# Altium schematic symbol library LPEDT_Parts.SchLib: 52 symbols (part 3 of 3)
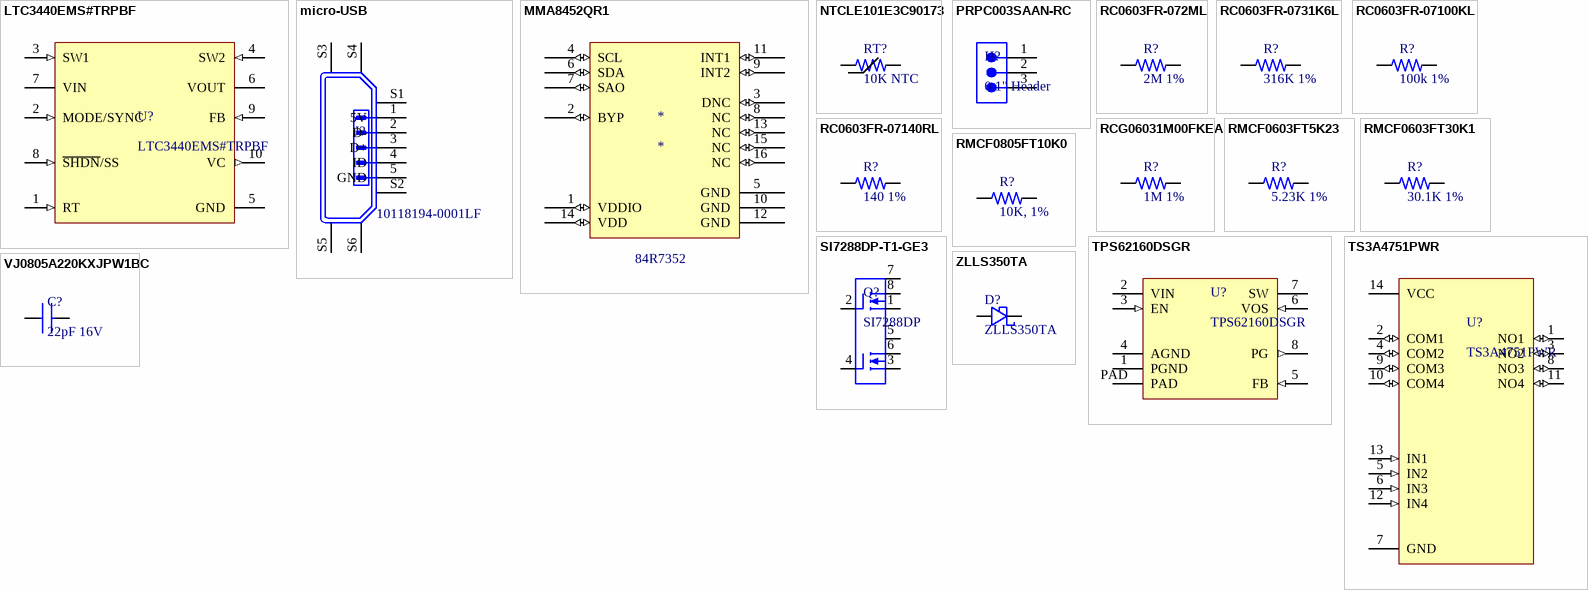
[diagram p3: symbols LTC3440EMS#TRPBF to ZLLS350TA]

## TS3A4751PWR
designator U?
IC, SPST ANALOG SWITCH 14-TSSOP; Manufacturer: Texas Instruments; Min Supply Voltage: 1.6V; Max Supply Voltage: 3.6V; Number of Channels: 4; Bandwidth: 125MHz; Operating Supply Voltage: 3V; On-State Resistance: 900mR; Turn-On Delay Time: 14ns; Turn-Off Delay Time: 9ns; Max Supply Current: 75nA; Supply Type: Single; Polarity: Non-Inverting; High Level Output Current: 100mA; Supplier 1: Digi-Key; Manufacturer Part Number: TS3A4751PWR; RoHS: Yes; Category: Decoders and Multiplexers; Stock 1: 66252; Pricing 1: 1=1.23000, 10=1.10100, 25=1.04480, 100=0.80220, 250=0.70892, 500=0.67162, 1000=0.52237 (USD); Mount: Surface Mount; Case/Package: TSSOP; Number of Pins: 14; Weight: 0.002018oz; Contact Plating: Gold; Min Operating Temperature: -40°C; Max Operating Temperature: 85°C; Package Quantity: 1; Packaging: Tape and Reel; Number of Inputs: 4; Number of Outputs: 4; Throw Configuration: SPST; Termination: SMD/SMT; Low Level Output Current: 100mA; Length: 5.1mm; Width: 4.5mm; Height: 1.05mm; Radiation Hardening: No; Lead Free: Lead Free; RoHS Compliant: Yes; REACH SVHC: No SVHC; ComponentLink1URL: https://datasheet.ciiva.com/2980/ts3a4751-2980067.pdf?src-supplier=Avnet; ComponentLink1Description: https://datasheet.ciiva.com/2980/ts3a4751-2980067.pdf?src-supplier=Avnet; ComponentLink2URL: https://datasheet.ciiva.com/15126/getdatasheetpartid-48049-15126911.pdf?src-supplier=Verical; ComponentLink2Description: https://datasheet.ciiva.com/15126/getdatasheetpartid-48049-15126911.pdf?src-supplier=Verical; ComponentLink3URL: https://datasheet.ciiva.com/41461/001187287-da-01-en-ic-switch-quad-ts3a4751pwr-tssop-14-tid-41461731.pdf?src-supplier=Conrad; ComponentLink3Description: https://datasheet.ciiva.com/41461/001187287-da-01-en-ic-switch-quad-ts3a4751pwr-tssop-14-tid-41461731.pdf?src-supplier=Conrad; ComponentLink4URL: https://datasheet.ciiva.com/1671/ts3a4751-1671475.pdf?src-supplier=Digi-Key; ComponentLink4Description: https://datasheet.ciiva.com/1671/ts3a4751-1671475.pdf?src-supplier=Digi-Key; ComponentLink5URL: https://datasheet.ciiva.com/1671/ts3a4751-1671476.pdf?src-supplier=Digi-Key; ComponentLink5Description: https://datasheet.ciiva.com/1671/ts3a4751-1671476.pdf?src-supplier=Digi-Key; ComponentLink6URL: https://datasheet.ciiva.com/6639/ts3a4751-6639431.pdf?src-supplier=Digi-Key; ComponentLink6Description: https://datasheet.ciiva.com/6639/ts3a4751-6639431.pdf?src-supplier=Digi-Key; ComponentLink7URL: https://datasheet.ciiva.com/1514/1764501-1514572.pdf?src-supplier=Element14; ComponentLink7Description: https://datasheet.ciiva.com/1514/1764501-1514572.pdf?src-supplier=Element14
footprint 14-TSSOP_5x4_4 (TSSOP, 14-Leads, Body 5.00x4.40mm, Pitch 0.65mm, IPC Medium Density)
pins: 1 NO1 (io) "Normally open signal path", 2 COM1 (io) "Common signal path", 3 NO2 (io) "Normally open signal path", 4 COM2 (io) "Common signal path", 5 IN2 (in) "Logic control input", 6 IN3 (in) "Logic control input", 7 GND (power) "Ground", 8 NO3 (io) "Normally open signal path", 9 COM3 (io) "Common signal path", 10 COM4 (io) "Common signal path", 11 NO4 (io) "Normally open signal path", 12 IN4 (in) "Logic control input", 13 IN1 (in) "Logic control input", 14 VCC (power) "Positive supply voltage"

## VJ0805A220KXJPW1BC
designator C?, comment 22pF 16V
CAP CER 22PF 16V C0G/NP0 0805; Manufacturer: Vishay Vitramon; Manufacturer Part Number: VJ0805A220KXJPW1BC; Dielectric Material: Tantalum; Tolerance: 10%; Dielectric: C0G; Supplier 1: Digi-Key; RoHS: Yes; Category: Ceramic Capacitors; Stock 1: 14990; Pricing 1: 1=0.20000, 10=0.14000, 50=0.07940, 100=0.06580, 500=0.04614, 1000=0.03819, 2500=0.03554, 5000=0.03252 (USD); Mount: Surface Mount; Case/Package: 0805; Case Code (Imperial): 0805; Case Code (Metric): 2012; Min Operating Temperature: -55°C; Max Operating Temperature: 125°C; Capacitance: 22pF; Voltage Rating (DC): 16V; Packaging: Tape and Reel; Package Quantity: 15000; Termination: SMD/SMT; Series: VJ W1BC; Construction: Flat; Length: 2mm; Width: 1.25mm; Height: 1.45mm; Depth: 1.25mm; Lead Free: Lead Free; RoHS Compliant: Yes; ComponentLink1URL: http://www.mouser.com/ds/2/427/vjw1bcbascomseries-223529.pdf?src-supplier=Mouser; ComponentLink1Description: http://www.mouser.com/ds/2/427/vjw1bcbascomseries-223529.pdf?src-supplier=Mouser; ComponentLink2URL: http://www.vishay.com/docs/28548/vjw1bcbascomseries.pdf?src-supplier=Avnet; ComponentLink2Description: http://www.vishay.com/docs/28548/vjw1bcbascomseries.pdf?src-supplier=Avnet; ComponentLink3URL: https://www.vishay.com/docs/28548/vjw1bcbascomseries.pdf?src-supplier=Digi-Key; ComponentLink3Description: https://www.vishay.com/docs/28548/vjw1bcbascomseries.pdf?src-supplier=Digi-Key
footprint CAP_0805_1_4MM (Chip Capacitor, 2-Leads, Body 2.00x1.25mm, IPC Medium Density)
pins: 1, 2

## ZLLS350TA
designator D?
Diode Schottky 40V 0.65A 2Pin SOD523; Manufacturer: Diodes Zetex; Forward Current: 650mA; Peak Non-Repetitive Surge Current: 6A; Element Configuration: Single; Forward Voltage: 1V; Max Power Dissipation: 357mW; Max Reverse Current: 4uA; Reverse Recovery Time: 1ns; Average Rectified Current: 380mA; Polarity: Standard; Capacitance: 3.5pF; Diode Type: RECTIFIER; Supplier 1: Digi-Key; Manufacturer Part Number: ZLLS350TA; RoHS: Yes; Category: Schottky Diodes; Stock 1: 114407; Pricing 1: 1=0.44000, 10=0.37700, 100=0.26180, 500=0.20442, 1000=0.16616 (USD); Mount: Surface Mount; Number of Pins: 2; Weight: 3.5E-05oz; Contact Plating: Tin,Matte; Min Operating Temperature: -55°C; Max Operating Temperature: 150°C; Max Repetitive Reverse Voltage (Vrrm): 40V; Packaging: Tape and Reel; Package Quantity: 3000; Max Forward Surge Current (Ifsm): 6A; Power Dissipation: 357mW; Termination: SMD/SMT; Voltage Rating (DC): 40V; Power Rating: 357mW; Current Rating: 380mA; Output Current: 380mA; Max Reverse Voltage (DC): 40V; Series: -; Length: 1.3mm; Width: 0.9mm; Height: 0.8mm; Radiation Hardening: No; Lead Free: Lead Free; RoHS Compliant: Yes; ComponentLink1URL: https://datasheet.ciiva.com/4715/zlls350-4715700.pdf?src-supplier=Avnet; ComponentLink1Description: https://datasheet.ciiva.com/4715/zlls350-4715700.pdf?src-supplier=Avnet; ComponentLink2URL: https://datasheet.ciiva.com/4715/zlls350-4715700.pdf?src-supplier=Mouser; ComponentLink2Description: https://datasheet.ciiva.com/4715/zlls350-4715700.pdf?src-supplier=Mouser; ComponentLink3URL: https://datasheet.ciiva.com/914/zlls350-914216.pdf?src-supplier=Digi-Key; ComponentLink3Description: https://datasheet.ciiva.com/914/zlls350-914216.pdf?src-supplier=Digi-Key; ComponentLink4URL: https://datasheet.ciiva.com/914/zlls350-914217.pdf?src-supplier=Digi-Key; ComponentLink4Description: https://datasheet.ciiva.com/914/zlls350-914217.pdf?src-supplier=Digi-Key; ComponentLink5URL: https://datasheet.ciiva.com/914/zlls350-914218.pdf?src-supplier=Digi-Key; ComponentLink5Description: https://datasheet.ciiva.com/914/zlls350-914218.pdf?src-supplier=Digi-Key
footprint DIODE-SOD_08X16 (SODFL, 2-Leads, Body 0.80x1.60mm, IPC Medium Density)
pins: 1 CATHODE, 2 ANODE